# EAGLE library part NODEMCU (library Richard_Micros)
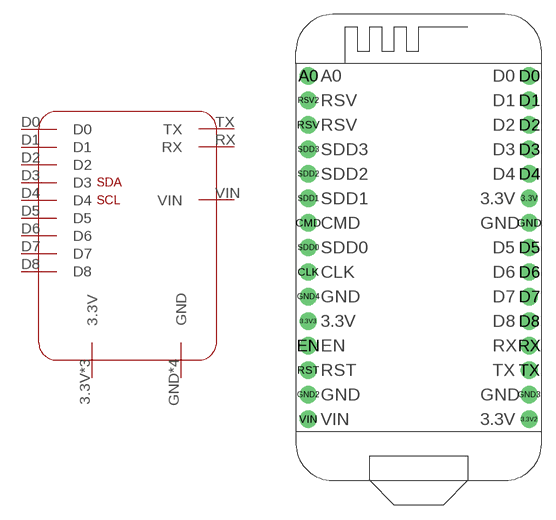
[diagram p1: symbol with the pads of NODEMCU; footprint NODEMCU]

Designator prefix -

## NODEMCU  [NODEMCU]
3.3V  3.3V  pas
3.3V2  3.3V  pas
3.3V3  3.3V  pas
D0  D0  pas
D1  D1  pas
D2  D2  pas
D3  D3  pas
D4  D4  pas
D5  D5  pas
D6  D6  pas
D7  D7  pas
D8  D8  pas
GND  GND  pas
GND2  GND  pas
GND3  GND  pas
GND4  GND  pas
RX  RX  pas
TX  TX  pas
VIN  VIN  pas

## Footprint NODEMCU (pad centres in mm)
drill 1.2: 3.3V 11.43,3.81; 3.3V2 11.43,-19.05; 3.3V3 -11.43,-8.89; A0 -11.43,16.51; CLK -11.43,-3.81; CMD -11.43,1.27; D0 11.43,16.51; D1 11.43,13.97; D2 11.43,11.43; D3 11.43,8.89; D4 11.43,6.35; D5 11.43,-1.27; D6 11.43,-3.81; D7 11.43,-6.35; D8 11.43,-8.89; EN -11.43,-11.43; GND 11.43,1.27; GND2 -11.43,-16.51; GND3 11.43,-16.51; GND4 -11.43,-6.35; RST -11.43,-13.97; RSV -11.43,11.43; RSV2 -11.43,13.97; RX 11.43,-11.43; SDD0 -11.43,-1.27; SDD1 -11.43,3.81; SDD2 -11.43,6.35; SDD3 -11.43,8.89; TX 11.43,-13.97; VIN -11.43,-19.05